# EAGLE library part FTSH-106-*-?-DH (library FTSH-106-XX-XXX-DH)
DOUBLE HORIZONTAL TERMINAL STRIP.
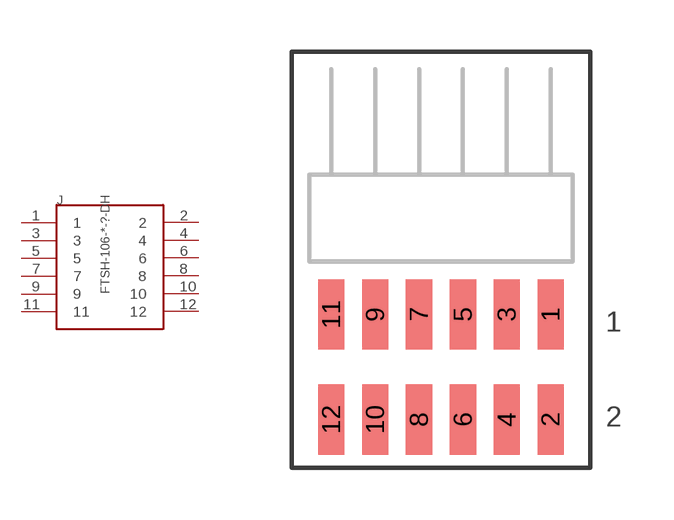
[diagram p0: symbol with the pads of FTSH-106-XX-XXX-DH; footprint FTSH-106-XX-XXX-DH]

Designator prefix J

## FTSH-106-01-L-DH (MF: SAMTEC; MPN: FTSH-106-01-L-DH), FTSH-106-02-L-DH (MF: SAMTEC; MPN: FTSH-106-02-L-DH), FTSH-106-04-L-DH (MF: SAMTEC; MPN: FTSH-106-04-L-DH)  [FTSH-106-XX-XXX-DH]
1  1
2  2
3  3
4  4
5  5
6  6
7  7
8  8
9  9
10  10
11  11
12  12

## FTSH-106-01-F-DH (MF: SAMTEC; MPN: FTSH-106-01-F-DH), FTSH-106-02-F-DH (MF: SAMTEC; MPN: FTSH-106-02-F-DH), FTSH-106-04-F-DH (MF: SAMTEC; MPN: FTSH-106-04-F-DH)  [FTSH-106-XX-XXX-DH]
Pads as for FTSH-106-XX-XXX-DH

## Footprint FTSH-106-XX-XXX-DH (pad centres in mm)
DOUBLE HORIZONTAL TERMINAL STRIP.
smd 0.762 x 2.032: 1 3.175,-2.794; 2 3.175,-5.842; 3 1.905,-2.794; 4 1.905,-5.842; 5 0.635,-2.794; 6 0.635,-5.842; 7 -0.635,-2.794; 8 -0.635,-5.842; 9 -1.905,-2.794; 10 -1.905,-5.842; 11 -3.175,-2.794; 12 -3.175,-5.842